# Altium footprint library Package_TO_SOT_SMD.PcbLib: 125 footprints (part 8 of 8)
Each footprint in its own frame and in the unit in brackets; x right, y up, seen from the top. Pads: shape width x height; smd on the part's side, far side on the other; paste and mask are expansions set on the pad; w line width, h text height; cw(c..) or ccw(c..) is an arc to the next point about the centre after c.
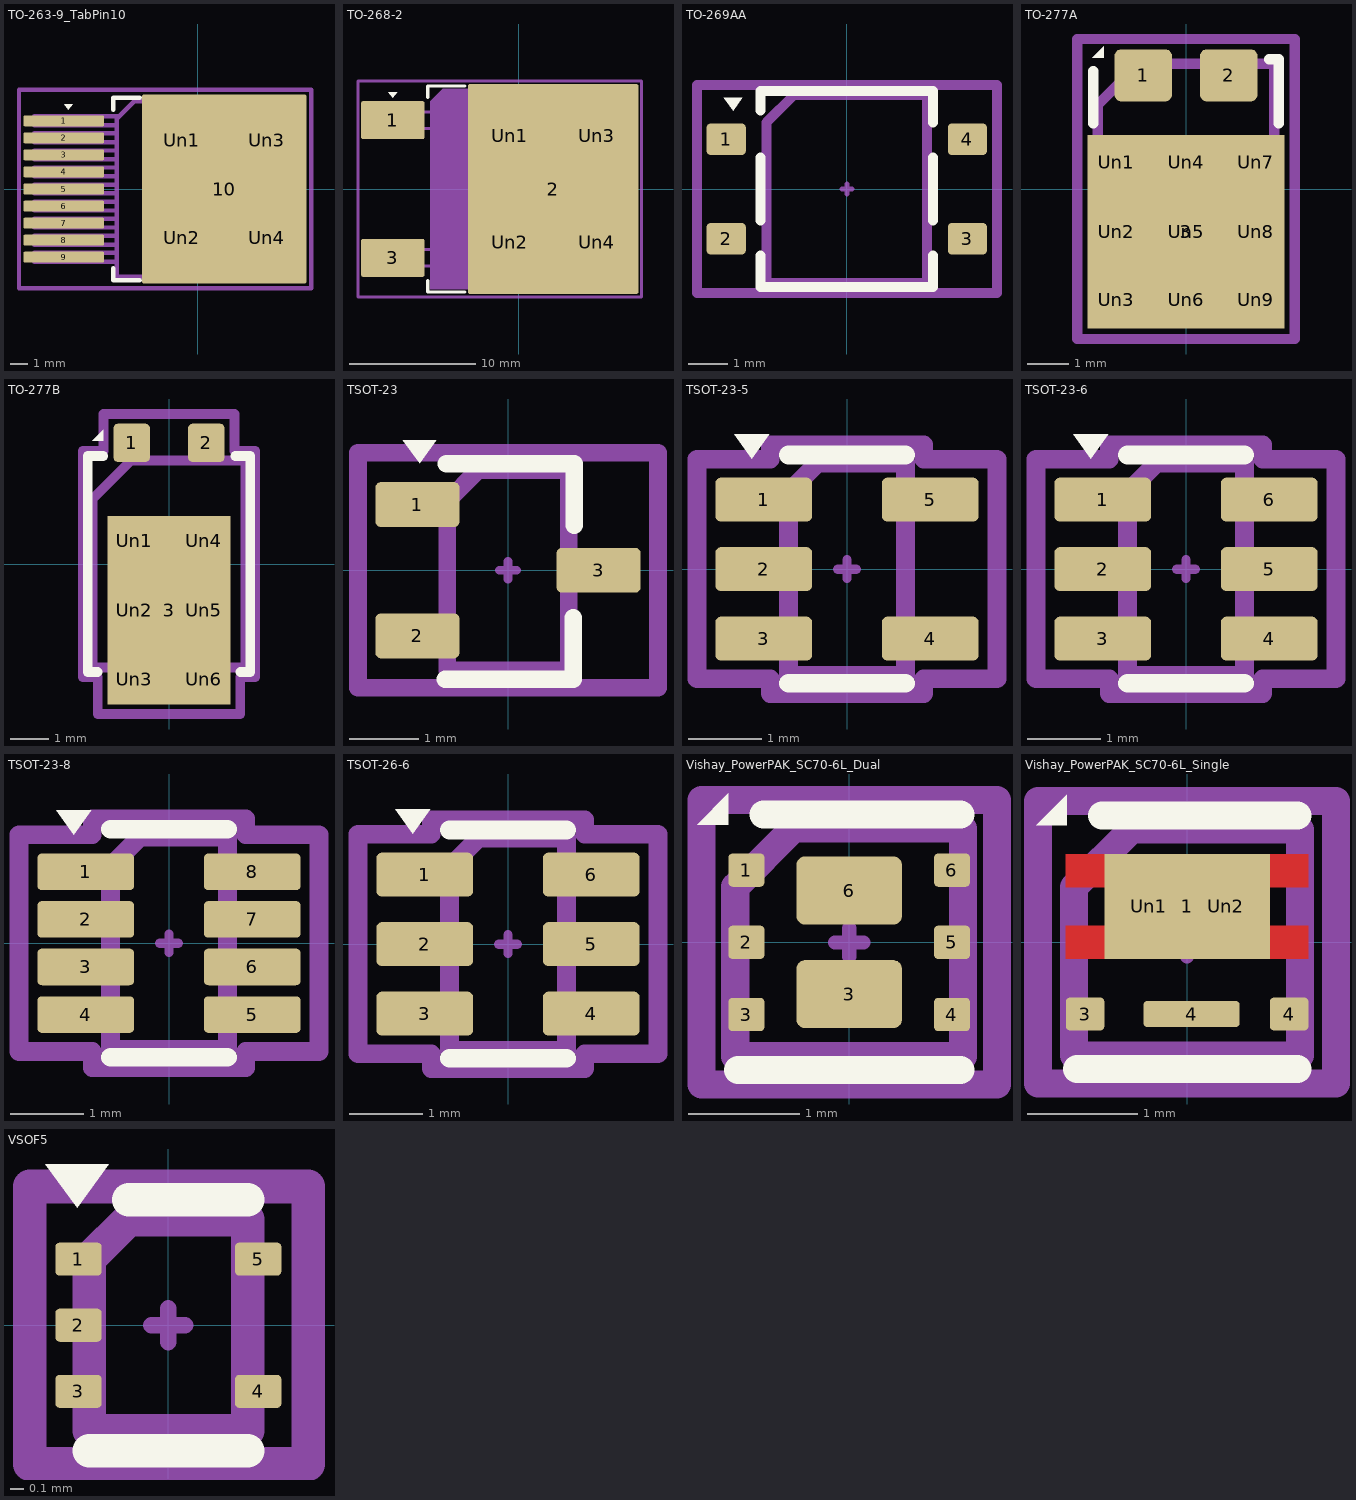
[diagram p7: the footprints below, top view; thin cyan lines are the x and y axes]

## TO-263-9_TabPin10 [mm] "TO-263-9_TabPin10"
pads (14):
  rrect25% 4.6x0.61 smd: 1(-7.65,3.88) 2(-7.65,2.91) 3(-7.65,1.94) 4(-7.65,0.97) 5(-7.65,0) 6(-7.65,-0.97) 7(-7.65,-1.94) 8(-7.65,-2.91) 9(-7.65,-3.88)
  rrect3% 9.4x10.8 smd: 10(1.5,0)
  rrect5% 4.55x5.25 on Top Paste: Un1(-0.925,2.775) Un2(-0.925,-2.775) Un3(3.925,2.775) Un4(3.925,-2.775)
F.SilkS:
  region: -7.388,4.51 -7.628,4.84 -7.147,4.84
  lines w0.254: -4.825,-4.51 -4.825,-5.2 -3.325,-5.2 ; -4.825,4.51 -4.825,5.2 -3.325,5.2
Top Component Center:
  lines w0.127: -0.127,0 0.127,0 ; 0,-0.127 0,0.127
Top Assembly:
  lines w0.254: -4.625,-4.135 -9.325,-4.135 -9.325,-3.625 -4.625,-3.625 ; -4.625,-3.165 -9.325,-3.165 -9.325,-2.655 -4.625,-2.655 ; -4.625,-2.195 -9.325,-2.195 -9.325,-1.685 -4.625,-1.685 ; -4.625,-1.225 -9.325,-1.225 -9.325,-0.715 -4.625,-0.715 ; -4.625,-0.255 -9.325,-0.255 -9.325,0.255 -4.625,0.255 ; -4.625,0.715 -9.325,0.715 -9.325,1.225 -4.625,1.225 ; -4.625,1.685 -9.325,1.685 -9.325,2.195 -4.625,2.195 ; -4.625,2.655 -9.325,2.655 -9.325,3.165 -4.625,3.165 ; -4.625,3.625 -9.325,3.625 -9.325,4.135 -4.49,4.135 ; 4.625,-5 5.625,-5 5.625,5 4.625,5 ; 4.625,-5 -4.625,-5 -4.625,4 -3.625,5 4.625,5 ; 4.625,-5 4.625,5
Top Courtyard:
  lines w0.254: -10.2,-5.65 6.45,-5.65 6.45,5.65 -10.2,5.65 -10.2,-5.65
Top Designator:
  text ".Designator" at -3.432,-0.345 h1.52
3D body "TO-263-9_TabPin10.step": height 4.42, standoff 0, extent -9.375,-5 5.625,5

## TO-268-2 [mm] "TO-268-2"
pads (7):
  rrect8% 5x3 smd: 1(-9.975,5.45) 3(-9.975,-5.45)
  rrect2% 13.5x16.6 smd: 2(2.725,0)
  rrect4% 6.6x8.15 on Top Paste: Un1(-0.725,4.225) Un2(-0.725,-4.225) Un3(6.175,4.225) Un4(6.175,-4.225)
F.SilkS:
  region: -9.975,7.21 -10.315,7.68 -9.635,7.68
  lines w0.254: -7.2,-7.25 -7.2,-8.15 -4.285,-8.15 ; -7.2,7.25 -7.2,8.15 -4.285,8.15
Top Component Center:
  lines w0.127: -0.127,0 0.127,0 ; 0,-0.127 0,0.127
Top Assembly:
  region: 7,-7.95 -7,-7.95 -7,6.95 -6,7.95 7,7.95
  lines w0.254: -7,-6.1 -10.9,-6.1 -10.9,-4.8 -7,-4.8 ; -7,4.8 -10.9,4.8 -10.9,6.1 -7,6.1 ; 7,-7.95 8,-7.95 8,7.95 7,7.95
  text "'.Designator'" at -4.047,-0.84 h1
Top Courtyard:
  lines w0.254: -12.73,-8.55 9.73,-8.55 9.73,8.55 -12.73,8.55 -12.73,-8.55
Top Designator:
  text ".Designator" at -3.432,-0.345 h1.52
3D body "TO-268-2.step": height 5.02, standoff 0, extent -11,-7.95 8,7.95

## TO-269AA [mm] "TO-269AA"
pads (4):
  rrect25% 1x0.8 smd: 1(-3.075,1.27) 2(-3.075,-1.27) 3(3.075,-1.27) 4(3.075,1.27)
F.SilkS:
  region: -2.9,2 -3.14,2.33 -2.66,2.33
  lines w0.254: -2.2,-1.7 -2.2,-2.5 2.2,-2.5 2.2,-1.7 ; -2.2,-0.8 -2.2,0.8 ; -2.2,2 -2.2,2.5 2.2,2.5 2.2,1.7 ; 2.2,-0.8 2.2,0.8
Top Component Center:
  lines w0.127: -0.127,0 0.127,0 ; 0,-0.127 0,0.127
Top Assembly:
  lines w0.254: -2.05,-2.4 2.05,-2.4 2.05,2.4 -1.35,2.4 -2.05,1.7 -2.05,-2.4
Top Courtyard:
  lines w0.254: -3.82,-2.65 3.83,-2.65 3.83,2.65 -3.82,2.65 -3.82,-2.65
Top Designator:
  text ".Designator" at -3.432,-0.345 h1.52
3D body "TO-269AA.step": height 1.63, standoff 0, extent -3.25,-2.35 3.25,2.35

## TO-277A [mm] "TO-277A"
pads (12):
  rrect25% 1.4x1.27 smd: 1(-1.04,2.765) 2(1.04,2.765)
  rect 4.8x4.72 smd: 3(0,-1.04)
  rrect25% 1.25x1.2 on Top Paste: Un1(-1.7,0.65) Un2(-1.7,-1.04) Un3(-1.7,-2.7) Un4(0,0.65) Un5(0,-1.04) Un6(0,-2.7) Un7(1.7,0.65) Un8(1.7,-1.04) Un9(1.7,-2.7)
F.SilkS:
  region: -2,3.19 -2.28,3.19 -2,3.47
  lines w0.254: -2.26,1.6 -2.26,2.87 ; 2.02,3.16 2.26,3.16 2.26,1.6
Top Component Center:
  lines w0.127: -0.127,0 0.127,0 ; 0,-0.127 0,0.127
Top Assembly:
  lines w0.254: -2.15,-3.05 -2.15,2.05 -1.15,3.05 2.15,3.05 2.15,-3.05 -2.15,-3.05
Top Courtyard:
  lines w0.254: -2.65,-3.65 -2.65,3.65 2.65,3.65 2.65,-3.65 -2.65,-3.65
Top Designator:
  text ".Designator" at -3.432,-0.345 h1.52
3D body "TO-277A.step": height 1.22, standoff 0, extent -2.3,-3.25 2.3,3.25

## TO-277B [mm] "TO-277B"
pads (9):
  rrect25% 0.95x1 smd: 1(-0.97,3.15) 2(0.97,3.15)
  rect 3.2x4.9 smd: 3(0,-1.2)
  rrect25% 1.3x1.2 on Top Paste: Un1(-0.9,0.6) Un2(-0.9,-1.2) Un3(-0.9,-3) Un4(0.9,0.6) Un5(0.9,-1.2) Un6(0.9,-3)
F.SilkS:
  region: -1.71,3.205 -1.99,3.205 -1.71,3.485
  lines w0.254: -1.86,-2.81 -2.11,-2.81 -2.11,2.81 -1.71,2.81 ; 1.72,2.81 2.11,2.81 2.11,-2.81 1.86,-2.81
Top Component Center:
  lines w0.127: -0.127,0 0.127,0 ; 0,-0.127 0,0.127
Top Assembly:
  lines w0.254: -1,2.69 1.99,2.69 1.99,-2.69 -1.99,-2.69 -1.99,1.69 -0.99,2.69
Top Courtyard:
  lines w0.254: -2.24,-2.94 -1.85,-2.94 -1.85,-3.9 1.85,-3.9 1.85,-2.94 2.24,-2.94 2.24,2.94 1.7,2.94 1.7,3.9 -1.7,3.9 -1.7,2.94 -2.24,2.94 -2.24,-2.94
Top Designator:
  text ".Designator" at -3.432,-0.345 h1.52
3D body "TO-277B.step": height 1.27, standoff 0, extent -1.99,-3.25 1.99,3.25

## TSOT-23 [mm] "TSOT-23"
pads (3):
  rrect25% 1.22x0.65 smd: 1(-1.31,0.95) 2(-1.31,-0.95) 3(1.31,0)
F.SilkS:
  region: -1.28,1.55 -1.52,1.88 -1.04,1.88
  lines w0.254: -0.905,-1.58 0.945,-1.58 0.945,-0.69 ; -0.89,1.54 0.96,1.54 0.96,0.65
Top Component Center:
  lines w0.127: -0.127,0 0.127,0 ; 0,-0.127 0,0.127
Top Assembly:
  lines w0.254: -0.88,-1.45 0.88,-1.45 0.88,1.45 -0.43,1.45 -0.88,1 -0.88,-1.45
Top Courtyard:
  lines w0.254: -2.17,-1.7 2.17,-1.7 2.17,1.7 -2.17,1.7 -2.17,-1.7
Top Designator:
  text ".Designator" at -3.432,-0.345 h1.52
3D body "TSOT-23.step": height 0.95, standoff 0, extent -1.4,-1.45 1.4,1.45

## TSOT-23-5 [mm] "TSOT-23-5"
pads (5):
  rrect25% 1.325x0.6 smd: 1(-1.138,0.95) 2(-1.138,0) 3(-1.138,-0.95) 4(1.138,-0.95) 5(1.138,0.95)
F.SilkS:
  region: -1.3,1.51 -1.54,1.84 -1.06,1.84
  lines w0.254: -0.8,-1.56 0,-1.56 0.8,-1.56 ; -0.8,1.56 0,1.56 0.8,1.56
Top Component Center:
  lines w0.127: -0.127,0 0.127,0 ; 0,-0.127 0,0.127
Top Assembly:
  lines w0.254: -0.8,-1.45 0.8,-1.45 0.8,1.45 -0.4,1.45 -0.8,1.05 -0.8,-1.45
Top Courtyard:
  lines w0.254: -2.05,-1.5 -1.05,-1.5 -1.05,-1.7 1.05,-1.7 1.05,-1.5 2.05,-1.5 2.05,1.5 1.05,1.5 1.05,1.7 -1.05,1.7 -1.05,1.5 -2.05,1.5 -2.05,-1.5
Top Designator:
  text ".Designator" at -3.432,-0.345 h1.52
3D body "TSOT-23-5.step": height 0.95, standoff 0, extent -1.4,-1.45 1.4,1.45

## TSOT-23-6 [mm] "TSOT-23-6"
pads (6):
  rrect25% 1.325x0.6 smd: 1(-1.138,0.95) 2(-1.138,0) 3(-1.138,-0.95) 4(1.138,-0.95) 5(1.138,0) 6(1.138,0.95)
F.SilkS:
  region: -1.3,1.51 -1.54,1.84 -1.06,1.84
  lines w0.254: -0.8,-1.56 0,-1.56 0.8,-1.56 ; -0.8,1.56 0,1.56 0.8,1.56
Top Component Center:
  lines w0.127: -0.127,0 0.127,0 ; 0,-0.127 0,0.127
Top Assembly:
  lines w0.254: -0.8,-1.45 -0.8,1.05 -0.4,1.45 0.8,1.45 0.8,-1.45 -0.8,-1.45
Top Courtyard:
  lines w0.254: -2.05,-1.5 -2.05,1.5 -1.05,1.5 -1.05,1.7 1.05,1.7 1.05,1.5 2.05,1.5 2.05,-1.5 1.05,-1.5 1.05,-1.7 -1.05,-1.7 -1.05,-1.5 -2.05,-1.5
Top Designator:
  text ".Designator" at -3.432,-0.345 h1.52
3D body "TSOT-23-6.step": height 0.95, standoff 0, extent -1.4,-1.45 1.4,1.45

## TSOT-23-8 [mm]
pads (8):
  rrect25% 1.325x0.5 smd: 1(-1.138,0.975) 2(-1.138,0.325) 3(-1.138,-0.325) 4(-1.138,-0.975) 5(1.138,-0.975) 6(1.138,-0.325) 7(1.138,0.325) 8(1.138,0.975)
F.SilkS:
  region: -1.3,1.485 -1.54,1.815 -1.06,1.815
  lines w0.254: -0.8,-1.56 0,-1.56 0.8,-1.56 ; -0.8,1.56 0,1.56 0.8,1.56
Top Component Center:
  lines w0.127: -0.127,0 0.127,0 ; 0,-0.127 0,0.127
Top Assembly:
  lines w0.254: -0.8,-1.45 0.8,-1.45 0.8,1.45 -0.4,1.45 -0.8,1.05 -0.8,-1.45
Top Courtyard:
  lines w0.254: -2.05,-1.48 -1.05,-1.48 -1.05,-1.7 1.05,-1.7 1.05,-1.48 2.05,-1.48 2.05,1.48 1.05,1.48 1.05,1.7 -1.05,1.7 -1.05,1.48 -2.05,1.48 -2.05,-1.48
Top Designator:
  text ".Designator" at -3.432,-0.345 h1.52
3D body "TSOT-23-6.step": height 0.95, standoff 0, extent -1.4,-1.45 1.4,1.45

## TSOT-26-6 [mm] "TSOT-26-6"
pads (6):
  rrect25% 1.325x0.6 smd: 1(-1.138,0.95) 2(-1.138,0) 3(-1.138,-0.95) 4(1.138,-0.95) 5(1.138,0) 6(1.138,0.95)
F.SilkS:
  region: -1.3,1.51 -1.54,1.84 -1.06,1.84
  lines w0.254: -0.8,-1.56 0,-1.56 0.8,-1.56 ; -0.8,1.56 0,1.56 0.8,1.56
Top Component Center:
  lines w0.127: -0.127,0 0.127,0 ; 0,-0.127 0,0.127
Top Assembly:
  lines w0.254: -0.8,-1.45 -0.8,1.05 -0.4,1.45 0.8,1.45 0.8,-1.45 -0.8,-1.45
Top Courtyard:
  lines w0.254: -2.05,-1.5 -2.05,1.5 -1.05,1.5 -1.05,1.7 1.05,1.7 1.05,1.5 2.05,1.5 2.05,-1.5 1.05,-1.5 1.05,-1.7 -1.05,-1.7 -1.05,-1.5 -2.05,-1.5
Top Designator:
  text ".Designator" at -3.432,-0.345 h1.52
3D body "TSOT-26-6.stp": height 1, standoff 0, extent -1.4,-1.45 1.4,1.45

## Vishay_PowerPAK_SC70-6L_Dual [mm] "Vishay_PowerPAK_SC70-6L_Dual"
pads (8):
  rrect25% 0.325x0.3 smd: 1(-0.925,0.65) 2(-0.925,0) 3(-0.925,-0.65) 4(0.925,-0.65) 5(0.925,0) 6(0.925,0.65)
  rrect25% 0.95x0.613 smd: 3(0,-0.466) 6(0,0.466)
F.SilkS:
  region: -1.09,1.06 -1.37,1.06 -1.09,1.34
  lines w0.254: -1,-1.15 1,-1.15 ; -0.77,1.15 1,1.15
Top Component Center:
  lines w0.127: -0.127,0 0.127,0 ; 0,-0.127 0,0.127
Top Assembly:
  lines w0.254: -1.025,-1.025 -1.025,0.5 -0.5,1.025 1.025,1.025 1.025,-1.025 -1.025,-1.025
Top Courtyard:
  lines w0.254: -1.33,-1.28 -1.33,1.28 1.33,1.28 1.33,-1.28 -1.33,-1.28
Top Designator:
  text ".Designator" at -2.253,-0.226 h1

## Vishay_PowerPAK_SC70-6L_Single [mm] "Vishay_PowerPAK_SC70-6L_Single"
pads (6):
  rect 1.5x0.95 smd: 1(0,0.325)
  rrect25% 0.35x0.3 smd: 3(-0.925,-0.65) 4(0.925,-0.65)
  rrect25% 0.87x0.235 smd: 4(0.04,-0.65)
  rrect25% 0.6x0.8 on Top Paste: Un1(-0.35,0.325) Un2(0.35,0.325)
F.Cu:
  region: 1.1,0.5 -1.1,0.5 -1.1,0.8 1.1,0.8
  region: 1.1,-0.15 -1.1,-0.15 -1.1,0.15 1.1,0.15
F.SilkS:
  region: -1.09,1.06 -1.37,1.06 -1.09,1.34
  lines w0.254: -1,-1.15 1,-1.15 ; -0.77,1.15 1,1.15
F.Mask:
  region: 1.1,0.5 -1.1,0.5 -1.1,0.8 1.1,0.8
  region: 1.1,-0.15 -1.1,-0.15 -1.1,0.15 1.1,0.15
Top Component Center:
  lines w0.127: -0.127,0 0.127,0 ; 0,-0.127 0,0.127
Top Assembly:
  lines w0.254: -0.5,1.025 -1.025,0.5 -1.025,-1.025 1.025,-1.025 1.025,1.025 ; -0.5,1.025 1.025,1.025 ; -0.5,1.025 1.025,1.025
Top Courtyard:
  lines w0.254: -1.35,-1.28 -1.35,1.28 1.35,1.28 1.35,-1.28 -1.35,-1.28
Top Designator:
  text ".Designator" at -2.253,-0.226 h1

## VSOF5 [mm] "VSOF5"
pads (5):
  rrect25% 0.35x0.25 smd: 1(-0.68,0.5) 2(-0.68,0) 3(-0.68,-0.5) 4(0.68,-0.5) 5(0.68,0.5)
F.SilkS:
  region: -0.69,0.89 -0.93,1.22 -0.45,1.22
  lines w0.254: -0.6,-0.95 0.6,-0.95 ; -0.3,0.95 0.6,0.95
Top Component Center:
  lines w0.127: -0.127,0 0.127,0 ; 0,-0.127 0,0.127
Top Assembly:
  lines w0.254: -0.6,-0.8 0.6,-0.8 0.6,0.8 -0.3,0.8 -0.6,0.5 -0.6,-0.8
Top Courtyard:
  lines w0.254: -1.05,-1.05 1.06,-1.05 1.06,1.05 -1.05,1.05 -1.05,-1.05
Top Designator:
  text ".Designator" at -1.578,-0.159 h0.7
3D body "VSOF5.step": height 0.63, standoff 0, extent -0.8,-0.8 0.8,0.8